# EAGLE library part 146134-14 (library con-tyco-mod-II)
HEADER
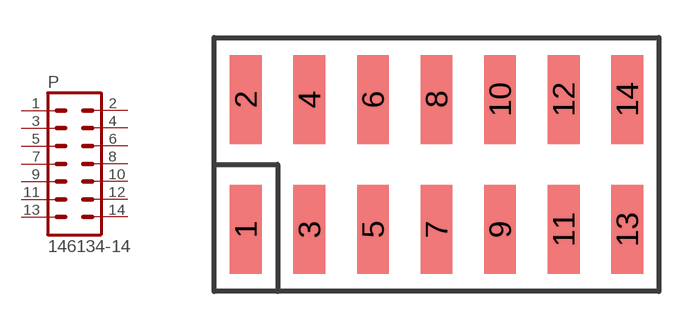
[diagram p4: symbol with the pads of 146134-14; footprint 146134-14]

Designator prefix P

## 146134-14  [146134-14]
1  1  pas
2  2  pas
3  3  pas
4  4  pas
5  5  pas
6  6  pas
7  7  pas
8  8  pas
9  9  pas
10  10  pas
11  11  pas
12  12  pas
13  13  pas
14  14  pas

## Footprint 146134-14 (pad centres in mm)
HEADER
smd 1.27 x 3.556: 1 -7.62,-2.603; 2 -7.62,2.603; 3 -5.08,-2.603; 4 -5.08,2.603; 5 -2.54,-2.603; 6 -2.54,2.603; 7 0,-2.603; 8 0,2.603; 9 2.54,-2.603; 10 2.54,2.603; 11 5.08,-2.603; 12 5.08,2.603; 13 7.62,-2.603; 14 7.62,2.603